# Altium footprint library CAPC2012X95N.PcbLib: 1 footprints
Each footprint in its own frame and in the unit in brackets; x right, y up, seen from the top. Pads: shape width x height; smd on the part's side, far side on the other; paste and mask are expansions set on the pad; w line width, h text height; cw(c..) or ccw(c..) is an arc to the next point about the centre after c.
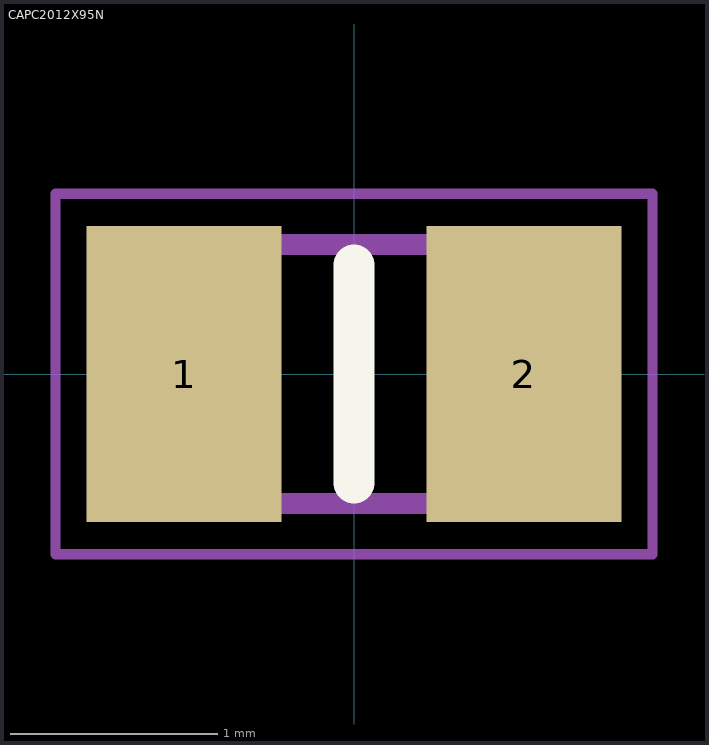
[diagram p0: the footprint, top view; thin cyan lines are the x and y axes]

## CAPC2012X95N [mm]
pads (2):
  rect 0.94x1.43 smd: 1(-0.82,0) 2(0.82,0)
Top Overlay:
  lines w0.2: 0,-0.525 0,0.525
Mechanical 15:
  lines w0.1: -1,-0.625 1,-0.625 1,0.625 -1,0.625 -1,-0.625
Mechanical 20:
  lines w0.05: -1.44,-0.87 1.44,-0.87 1.44,0.87 -1.44,0.87 -1.44,-0.87
3D body "CL21A475KLCLQNC.stp": height 5.8, standoff -4.65, extent -10,-3.376 10,3.376